# Altium footprint library Packaging.PcbLib: 8 footprints
Each footprint in its own frame and in the unit in brackets; x right, y up, seen from the top. Pads: shape width x height; smd on the part's side, far side on the other; paste and mask are expansions set on the pad; w line width, h text height; cw(c..) or ccw(c..) is an arc to the next point about the centre after c.
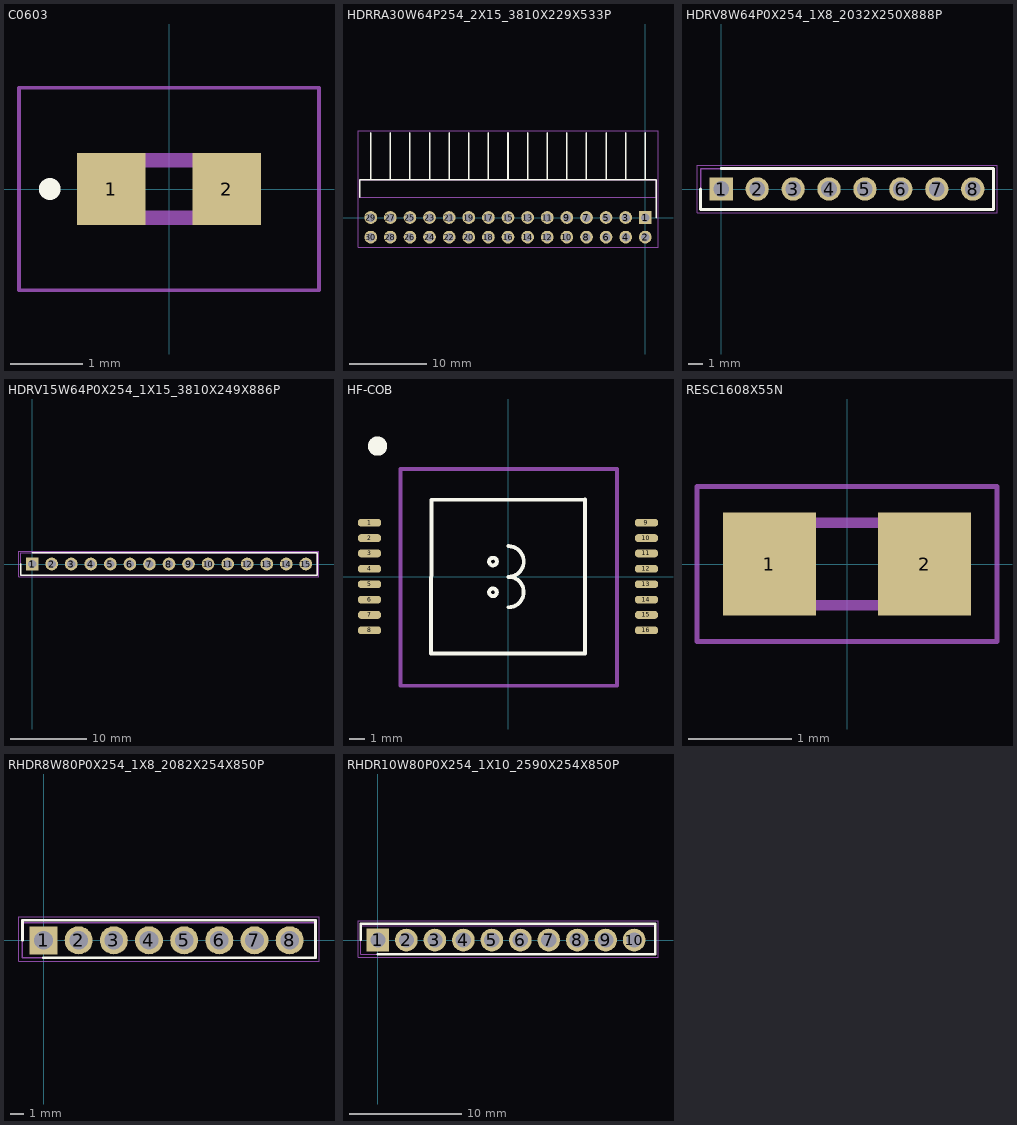
[diagram p0: the footprints below, top view; thin cyan lines are the x and y axes]

## C0603 [mm]
pads (2):
  rect 0.95x1 smd: 1(-0.8,0) 2(0.8,0)
Top Overlay:
  circle w0.2: c-1.65,0 r0.05
Mechanical 13:
  lines w0.2: -0.8,-0.4 0.8,-0.4 0.8,0.4 -0.8,0.4 -0.8,-0.4
Mechanical 15:
  lines w0.05: -2.075,-1.4 2.075,-1.4 2.075,1.4 -2.075,1.4 -2.075,-1.4
3D body "C0603C104K5RAC7411.stp": height 0.95, standoff 0, extent -0.87,-0.48 0.88,0.47

## HDRRA30W64P254_2X15_3810X229X533P [mm]
pads (30):
  rect 1.65x1.65 hole 1.1: 1(0,0)
  round 1.65 hole 1.1: 2(0,-2.54) 3(-2.54,0) 4(-2.54,-2.54) 5(-5.08,0) 6(-5.08,-2.54) 7(-7.62,0) 8(-7.62,-2.54) 9(-10.16,0) 10(-10.16,-2.54) 11(-12.7,0) 12(-12.7,-2.54) 13(-15.24,0) 14(-15.24,-2.54) 15(-17.78,0) 16(-17.78,-2.54) 17(-20.32,0) 18(-20.32,-2.54) 19(-22.86,0) 20(-22.86,-2.54) 21(-25.4,0) 22(-25.4,-2.54) 23(-27.94,0) 24(-27.94,-2.54) 25(-30.48,0) 26(-30.48,-2.54) 27(-33.02,0) 28(-33.02,-2.54) 29(-35.56,0) 30(-35.56,-2.54)
Top Overlay:
  lines w0.2: -36.955,2.61 -36.955,4.9 1.395,4.9 1.395,0 ; -35.56,4.9 -35.56,11 ; -33.02,4.9 -33.02,11 ; -30.48,4.9 -30.48,11 ; -27.94,4.9 -27.94,11 ; -25.4,4.9 -25.4,11 ; -22.86,4.9 -22.86,11 ; -20.32,4.9 -20.32,11 ; -17.78,4.9 -17.78,11 ; -15.24,4.9 -15.24,11 ; -12.7,4.9 -12.7,11 ; -10.16,4.9 -10.16,11 ; -7.62,4.9 -7.62,11 ; -5.08,4.9 -5.08,11 ; -2.54,4.9 -2.54,11 ; 0,4.9 0,11
Mechanical 13:
  lines w0.1: -36.955,2.61 1.395,2.61 1.395,4.9 -36.955,4.9 -36.955,2.61
Mechanical 15:
  lines w0.05: -37.205,-3.865 1.645,-3.865 1.645,11.25 -37.205,11.25 -37.205,-3.865
3D body "0717640130.stp": height 5.33, standoff -3.04, extent -36.955,-2.86 1.395,11.25

## HDRV8W64P0X254_1X8_2032X250X888P [mm]
pads (8):
  rect 1.65x1.65 hole 1.1: 1(0,0)
  round 1.65 hole 1.1: 2(2.54,0) 3(5.08,0) 4(7.62,0) 5(10.16,0) 6(12.7,0) 7(15.24,0) 8(17.78,0)
Top Overlay:
  lines w0.2: -1.46,0 -1.46,-1.44 19.241,-1.44 19.241,1.441 0,1.441
Mechanical 13:
  lines w0.1: -1.46,-1.44 19.241,-1.44 19.241,1.441 -1.46,1.441 -1.46,-1.44
Mechanical 15:
  lines w0.05: -1.71,-1.69 19.491,-1.69 19.491,1.691 -1.71,1.691 -1.71,-1.69
3D body "PH1-08-UA.stp": height 8.88, standoff -3.43, extent -1.27,-1.25 19.05,1.25

## HDRV15W64P0X254_1X15_3810X249X886P [mm]
pads (15):
  rect 1.65x1.65 hole 1.1: 1(0,0)
  round 1.65 hole 1.1: 2(2.54,0) 3(5.08,0) 4(7.62,0) 5(10.16,0) 6(12.7,0) 7(15.24,0) 8(17.78,0) 9(20.32,0) 10(22.86,0) 11(25.4,0) 12(27.94,0) 13(30.48,0) 14(33.02,0) 15(35.56,0)
Top Overlay:
  lines w0.2: -1.46,0 -1.46,-1.435 37.021,-1.435 37.021,1.435 0,1.435
Mechanical 13:
  lines w0.1: -1.46,-1.435 -1.46,1.435 37.021,1.435 37.021,-1.435 -1.46,-1.435
Mechanical 15:
  lines w0.05: -1.71,-1.685 -1.71,1.685 37.271,1.685 37.271,-1.685 -1.71,-1.685
3D body "PH1-15-UA.stp": height 8.86, standoff -3.43, extent -1.27,-1.245 36.83,1.245

## HF-COB [mm] "Chip on board footprint"
height 0.525
pads (16):
  rrect80% 1.5x0.5 smd mask+0: 1(-9.024,3.524) 2(-9.024,2.524) 3(-9.024,1.524) 4(-9.024,0.524) 5(-9.024,-0.476) 6(-9.024,-1.476) 7(-9.024,-2.476) 8(-9.024,-3.476) 9(8.976,3.524) 10(8.976,2.524) 11(8.976,1.524) 12(8.976,0.524) 13(8.976,-0.476) 14(8.976,-1.476) 15(8.976,-2.476) 16(8.976,-3.476)
Top Overlay:
  circle w0.75: c-8.5,8.5 r0.25
  circle w0.25: c-1,1 r0.25
  circle w0.25: c-1,-1 r0.25
  lines w0.254: 0,-1.972 ccw(c0.014,-0.986) 0,0 ccw(c0,1) 0,2 ; -5.024,-4.976 -5,5 4.976,5.024 4.976,-4.976 -5.024,-4.976
Mechanical 1:
  lines w0.254: 7.024,-7.024 6.976,-7.073 ; -7.024,-7.073 6.976,-7.073 ; -7.024,-7.073 -7.024,6.927 -7.024,-7.073 ; -7.024,-7.073 6.976,-7.073 ; 6.976,7.024 -7.024,7.024 6.976,7.024 ; 6.976,7.024 7.073,7.024 6.976,7.024 ; 7.073,-7.073 7.073,6.927 7.073,-7.073
3D body "HF Chip.step": height 0.53, standoff 0, extent -5,-5 5,5

## RESC1608X55N [mm]
pads (2):
  rect 0.9x1 smd: 1(-0.75,0) 2(0.75,0)
Mechanical 13:
  lines w0.1: -0.775,-0.4 -0.775,0.4 0.775,0.4 0.775,-0.4 -0.775,-0.4
Mechanical 15:
  lines w0.05: -1.45,-0.75 -1.45,0.75 1.45,0.75 1.45,-0.75 -1.45,-0.75
3D body "RMCF0603FT1K00.stp": height 0.45, standoff 0, extent -0.774,-0.396 0.776,0.404

## RHDR8W80P0X254_1X8_2082X254X850P [mm]
pads (8):
  rect 2.025x2.025 hole 1.35: 1(0,0)
  round 2.025 hole 1.35: 2(2.54,0) 3(5.08,0) 4(7.62,0) 5(10.16,0) 6(12.7,0) 7(15.24,0) 8(17.78,0)
Top Overlay:
  lines w0.2: -1.52,0 -1.52,1.455 19.65,1.455 19.65,-1.27 0,-1.27
Mechanical 13:
  lines w0.1: -1.52,-1.27 -1.52,1.27 19.65,1.27 19.65,-1.27 -1.52,-1.27
Mechanical 15:
  lines w0.05: -1.77,-1.52 -1.77,1.705 19.9,1.705 19.9,-1.52 -1.77,-1.52
3D body "PPTC081LFBN-RC.stp": height 8.5, standoff -3.5, extent -1.52,-1.27 19.3,1.27

## RHDR10W80P0X254_1X10_2590X254X850P [mm]
pads (10):
  rect 2.025x2.025 hole 1.35: 1(0,0)
  round 2.025 hole 1.35: 2(2.54,0) 3(5.08,0) 4(7.62,0) 5(10.16,0) 6(12.7,0) 7(15.24,0) 8(17.78,0) 9(20.32,0) 10(22.86,0)
Top Overlay:
  lines w0.2: -1.52,0 -1.52,1.455 24.73,1.455 24.73,-1.27 0,-1.27
Mechanical 13:
  lines w0.1: -1.52,-1.27 24.73,-1.27 24.73,1.27 -1.52,1.27 -1.52,-1.27
Mechanical 15:
  lines w0.05: -1.77,-1.52 24.98,-1.52 24.98,1.705 -1.77,1.705 -1.77,-1.52
3D body "PPTC101LFBN-RC.stp": height 8.5, standoff -3.5, extent -1.52,-1.27 24.38,1.27